# Altium schematic symbol library SRD-12VDC-SL-C.SchLib: 1 symbol
Pins are listed as number, name and electrical type; pins without a type are passive.

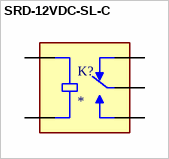
[diagram p0: symbol SRD-12VDC-SL-C]

## SRD-12VDC-SL-C
designator K?
General Purpose Non Latching 12VDC SPDT Through Hole Relays RoHS; MF: {'manufacturer': u'Songle Relay'}; MP: SRD-12VDC-SL-C; Availability: Unavailable; Value: *; Price: None; Package: None
footprint RELAY_SRD-12VDC-SL-C
pins: COIL1, COIL2, COM, NC, NO